# EAGLE library part ADS1263_PW_28 (library ads1263)
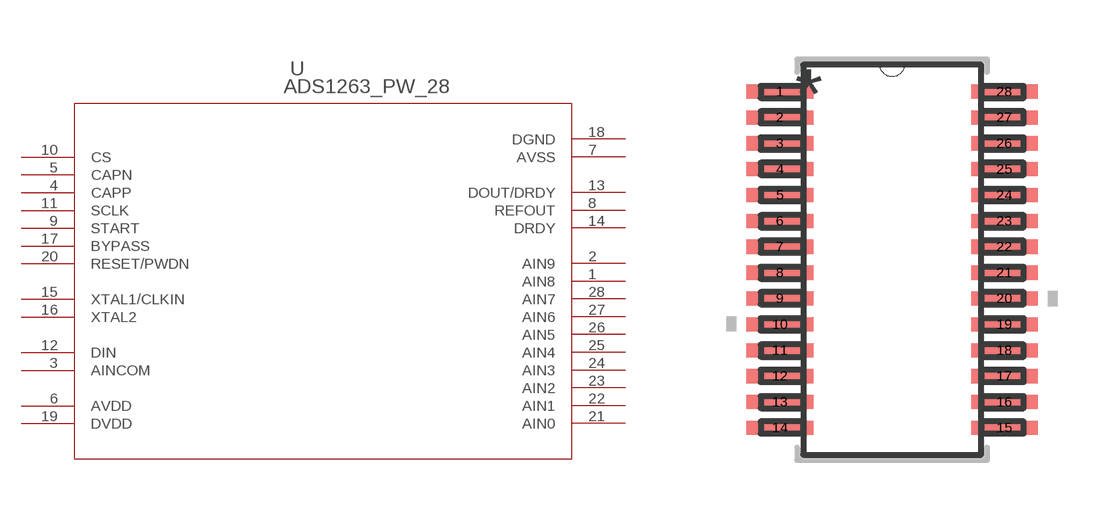
[diagram p0: symbol with the pads of PW28; footprint PW28]

Designator prefix -

## ADS1263_PW_28 (MANUFACTURER_PART_NUMBER: ads1263_pw_28; VENDOR: Texas Instruments)  [PW28]
1  AIN8
2  AIN9
3  AINCOM
4  CAPP  out
5  CAPN  out
6  AVDD  pwr
7  AVSS  pwr
8  REFOUT  out
9  START  in
10  CS  in
11  SCLK  in
12  DIN  in
13  DOUT/DRDY  out
14  DRDY  out
15  XTAL1/CLKIN  in
16  XTAL2  in
17  BYPASS  out
18  DGND  pwr
19  DVDD  pwr
20  RESET/PWDN  in
21  AIN0
22  AIN1
23  AIN2
24  AIN3
25  AIN4
26  AIN5
27  AIN6
28  AIN7

## Footprint PW28 (pad centres in mm)
smd 1.676 x 0.356: 1 -2.819,4.225; 2 -2.819,3.575; 3 -2.819,2.925; 4 -2.819,2.275; 5 -2.819,1.625; 6 -2.819,0.975; 7 -2.819,0.325; 8 -2.819,-0.325; 9 -2.819,-0.975; 10 -2.819,-1.625; 11 -2.819,-2.275; 12 -2.819,-2.925; 13 -2.819,-3.575; 14 -2.819,-4.225; 15 2.819,-4.225; 16 2.819,-3.575; 17 2.819,-2.925; 18 2.819,-2.275; 19 2.819,-1.625; 20 2.819,-0.975; 21 2.819,-0.325; 22 2.819,0.325; 23 2.819,0.975; 24 2.819,1.625; 25 2.819,2.275; 26 2.819,2.925; 27 2.819,3.575; 28 2.819,4.225